# Altium schematic symbol library D_DO214AC(SMA).SchLib: 1 symbol
Pins are listed as number, name and electrical type; pins without a type are passive.

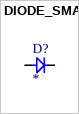
[diagram p0: symbol DIODE_SMA]

## DIODE_SMA
designator D?
Manufacturer: *; Manufacturer Part: *; Value: *; Voltage: *
footprint D_SMA
pins: 1, 2